# Altium footprint library Voltage Regulators SMD.PcbLib: 3 footprints
Each footprint in its own frame and in the unit in brackets; x right, y up, seen from the top. Pads: shape width x height; smd on the part's side, far side on the other; paste and mask are expansions set on the pad; w line width, h text height; cw(c..) or ccw(c..) is an arc to the next point about the centre after c.
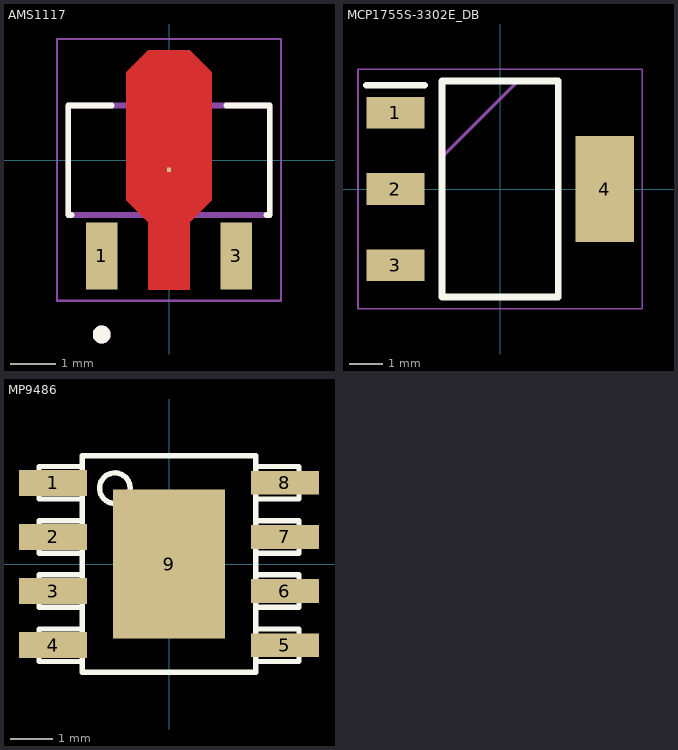
[diagram p0: the footprints below, top view; thin cyan lines are the x and y axes]

## AMS1117 [mil] "SOT-89"
pads (4):
  rect 28x59 smd: 1(-59,-84) 3(59,-84)
  round 1 smd: 2(0,-8.5)
  rect 3.94x3.94 smd paste-39.37 mask+0: 2_4(0,-8.5)
Top Layer:
  region: 37.5,77 37.5,-35 18,-54.5 18,-113.5 -18,-113.5 -18,-54.5 -37.5,-35 -37.5,77 -18,96.5 18,96.5
Top Overlay:
  circle w7.87: c-59,-152.87 r3.94
  lines w5: -85.6,-48 -88.5,-48 -88.5,48 -50.12,48 ; 50.12,48 88.5,48 88.5,-48 85.6,-48
Top Paste:
  region: 37.5,77 37.5,-35 18,-54.5 18,-113.5 -18,-113.5 -18,-54.5 -37.5,-35 -37.5,77 -18,96.5 18,96.5
Top Solder:
  region: 41.44,78.97 41.44,-36.97 21.94,-56.47 21.94,-117.44 -21.94,-117.44 -21.94,-56.47 -41.44,-36.97 -41.44,78.97 -19.97,100.44 19.97,100.44
Mechanical 13:
  circle w7.87: c-59,-152.87 r3.94
  lines w5: -88.5,-48 88.5,-48 88.5,48 -88.5,48 -88.5,-48
Mechanical 15:
  lines w1.97: -98.34,-123.35 -98.34,106.34 98.34,106.34 98.34,-123.35 -98.34,-123.35
3D body "step_temp.STEP": height 62.99, standoff 0, extent -88.58,-100.61 88.58,60.61

## MCP1755S-3302E_DB [mm]
pads (4):
  rect 1.75x0.95 smd: 1(-3.15,2.3) 2(-3.15,0) 3(-3.15,-2.3)
  rect 1.75x3.2 smd: 4(3.15,0)
Top Overlay:
  lines w0.2: -4.025,3.125 -2.275,3.125 ; -1.75,-3.25 -1.75,3.25 1.75,3.25 1.75,-3.25 -1.75,-3.25
Mechanical 13:
  lines w0.1: -1.75,0.95 0.55,3.25 ; -1.75,-3.25 -1.75,3.25 1.75,3.25 1.75,-3.25 -1.75,-3.25
Mechanical 15:
  lines w0.05: -4.275,-3.6 -4.275,3.6 4.275,3.6 4.275,-3.6 -4.275,-3.6
3D body "MCP1755S-3302E_DB.stp": height 1.8, standoff 0, extent -3.5,-3.25 3.5,3.25

## MP9486 [mil]
pads (9):
  rect 63x24 smd: 1(-107,75) 2(-107,25) 3(-107,-25) 4(-107,-75)
  rect 63x22 smd: 5(107,-75) 6(107,-25) 7(107,25) 8(107,75)
  rect 103x138 smd: 9(0,0)
Top Overlay:
  circle w5: c-50,70 r14.14
  lines w5: -80,-90 -120,-90 -120,-60 -80,-60 ; -80,-90 -80,-100 80,-100 80,-90 ; -80,-90 -80,-60 ; -80,-60 -80,-40 ; -80,-40 -120,-40 -120,-10 -80,-10 ; -80,-40 -80,-10 ; -80,-10 -80,10 ; -80,10 -120,10 -120,40 -80,40 ; -80,10 -80,40 ; -80,40 -80,60 ; -80,60 -120,60 -120,90 -80,90 ; -80,60 -80,90 ; -80,90 -80,100 80,100 80,90 ; 80,-90 120,-90 120,-60 80,-60 ; 80,-90 80,-60 ; 80,-60 80,-40 ; 80,-40 120,-40 120,-10 80,-10 ; 80,-40 80,-10 ; 80,-10 80,10 ; 80,10 120,10 120,40 80,40 ; 80,10 80,40 ; 80,40 80,60 ; 80,60 120,60 120,90 80,90 ; 80,60 80,90
3D body "step_temp.STEP": height 67, standoff 0, extent -118,-96.5 118,96.5